# Altium schematic symbol library sensors.SchLib: 4 symbols
Pins are listed as number, name and electrical type; pins without a type are passive.

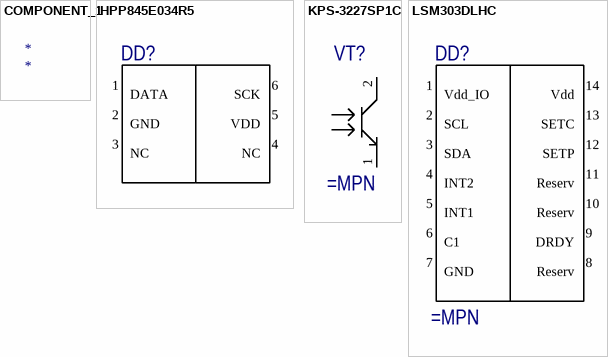
[diagram p0: symbols COMPONENT_1 to LSM303DLHC]

## COMPONENT_1
designator *

## HPP845E034R5
designator DD?
pins: 1 DATA, 2 GND, 3 NC, 4 NC, 5 VDD, 6 SCK
1 alternate drawing of the same symbol

## KPS-3227SP1C
designator VT?
pins: 1 Collector, 2 Emitter
1 alternate drawing of the same symbol

## LSM303DLHC
designator DD?
pins: 1 Vdd_IO, 2 SCL, 3 SDA, 4 INT2, 5 INT1, 6 C1, 7 GND, 8 Reserv, 9 DRDY, 10  Reserv, 11  Reserv, 12 SETP, 13  SETC, 14 Vdd
1 alternate drawing of the same symbol